# Altium schematic symbol library Bluetooth.SchLib: 1 symbol
Pins are listed as number, name and electrical type; pins without a type are passive.

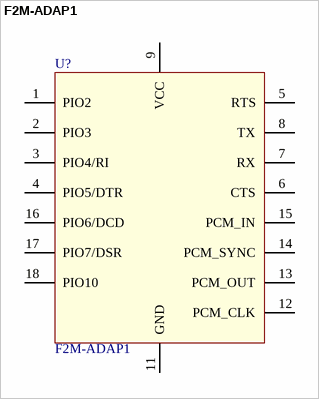
[diagram p0: symbol F2M-ADAP1]

## F2M-ADAP1
designator U?
Adapter for F2M03GLA bluetooth module
footprint F2M-ADAP1
pins: 1 PIO2, 2 PIO3, 3 PIO4/RI, 4 PIO5/DTR, 5 RTS, 6 CTS, 7 RX, 8 TX, 9 VCC (power), 11 GND (power), 12 PCM_CLK, 13 PCM_OUT, 14 PCM_SYNC, 15 PCM_IN, 16 PIO6/DCD, 17 PIO7/DSR, 18 PIO10